# Altium schematic symbol library Magnetics.SchLib: 2 symbols
Pins are listed as number, name and electrical type; pins without a type are passive.

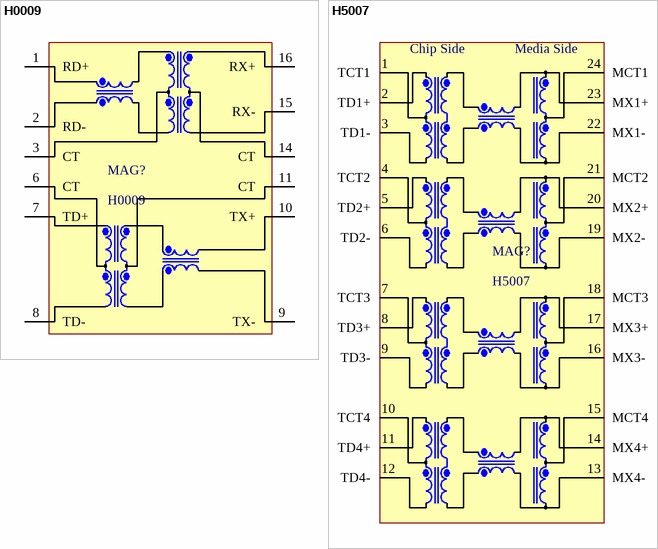
[diagram p0: symbols H0009 to H5007]

## H0009
designator MAG?
Pulse H0009 PCMCIA 10/100T 1:1 Magnetics Module
footprint H0009
pins: 1 RD+, 2 RD-, 3 CT, 6 CT, 7 TD+, 8 TD-, 9 TX-, 10 TX+, 11 CT, 14 CT, 15 RX-, 16 RX+

## H5007
designator MAG?
Pulse H5007 Gigabit Magnetics
footprint H5004, HX5004, H5007
pins: 1 TCT1, 2 TD1+, 3 TD1-, 4 TCT2, 5 TD2+, 6 TD2-, 7 TCT3, 8 TD3+, 9 TD3-, 10 TCT4, 11 TD4+, 12 TD4-, 13 MX4-, 14 MX4+, 15 MCT4, 16 MX3-, 17 MX3+, 18 MCT3, 19 MX2-, 20 MX2+, 21 MCT2, 22 MX1-, 23 MX1+, 24 MCT1
text: Chip Side; Media Side